# EAGLE library part WR-COM3.0_TYPE_A (library FaBo-USB)
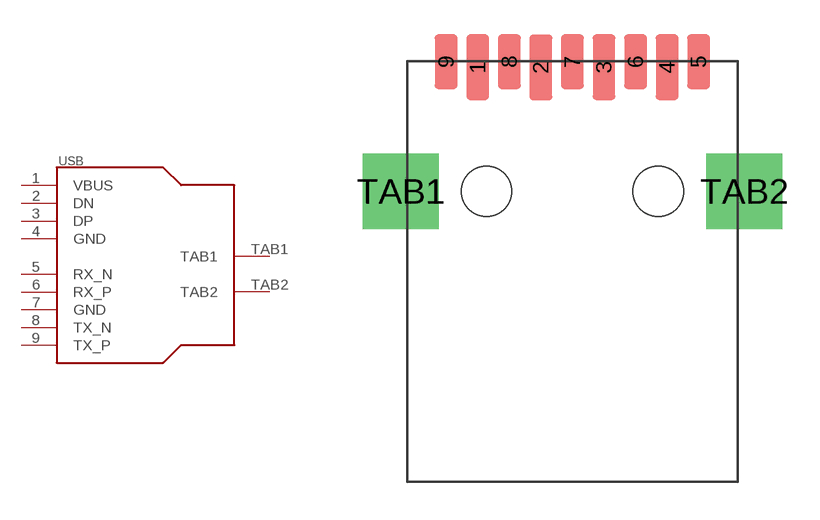
[diagram p9: symbol with the pads of WR-COM3.0_TYPE_A; footprint WR-COM3.0_TYPE_A]

Designator prefix USB

## WR-COM3.0_TYPE_A  [WR-COM3.0_TYPE_A]
1  VBUS
2  DN
3  DP
4  GND
5  RX_N
6  RX_P
7  GND
8  TX_N
9  TX_P
TAB1  TAB1
TAB2  TAB2

## Footprint WR-COM3.0_TYPE_A (pad centres in mm)
smd 0.9 x 2.6: 1 -3.75,4.92; 2 -1.25,4.91; 3 1.25,4.92; 4 3.75,4.92
smd 0.9 x 2.16: 5 5,5.14; 6 2.5,5.14; 7 0,5.14; 8 -2.5,5.14; 9 -5,5.14
drill 2 square: TAB1 -6.8,0; TAB2 6.8,0
hole 2 at 3.4,0
hole 2 at -3.4,0